# Altium footprint library Connector_Molex.PcbLib: 815 footprints (part 11 of 51)
Each footprint in its own frame and in the unit in brackets; x right, y up, seen from the top. Pads: shape width x height; smd on the part's side, far side on the other; paste and mask are expansions set on the pad; w line width, h text height; cw(c..) or ccw(c..) is an arc to the next point about the centre after c.
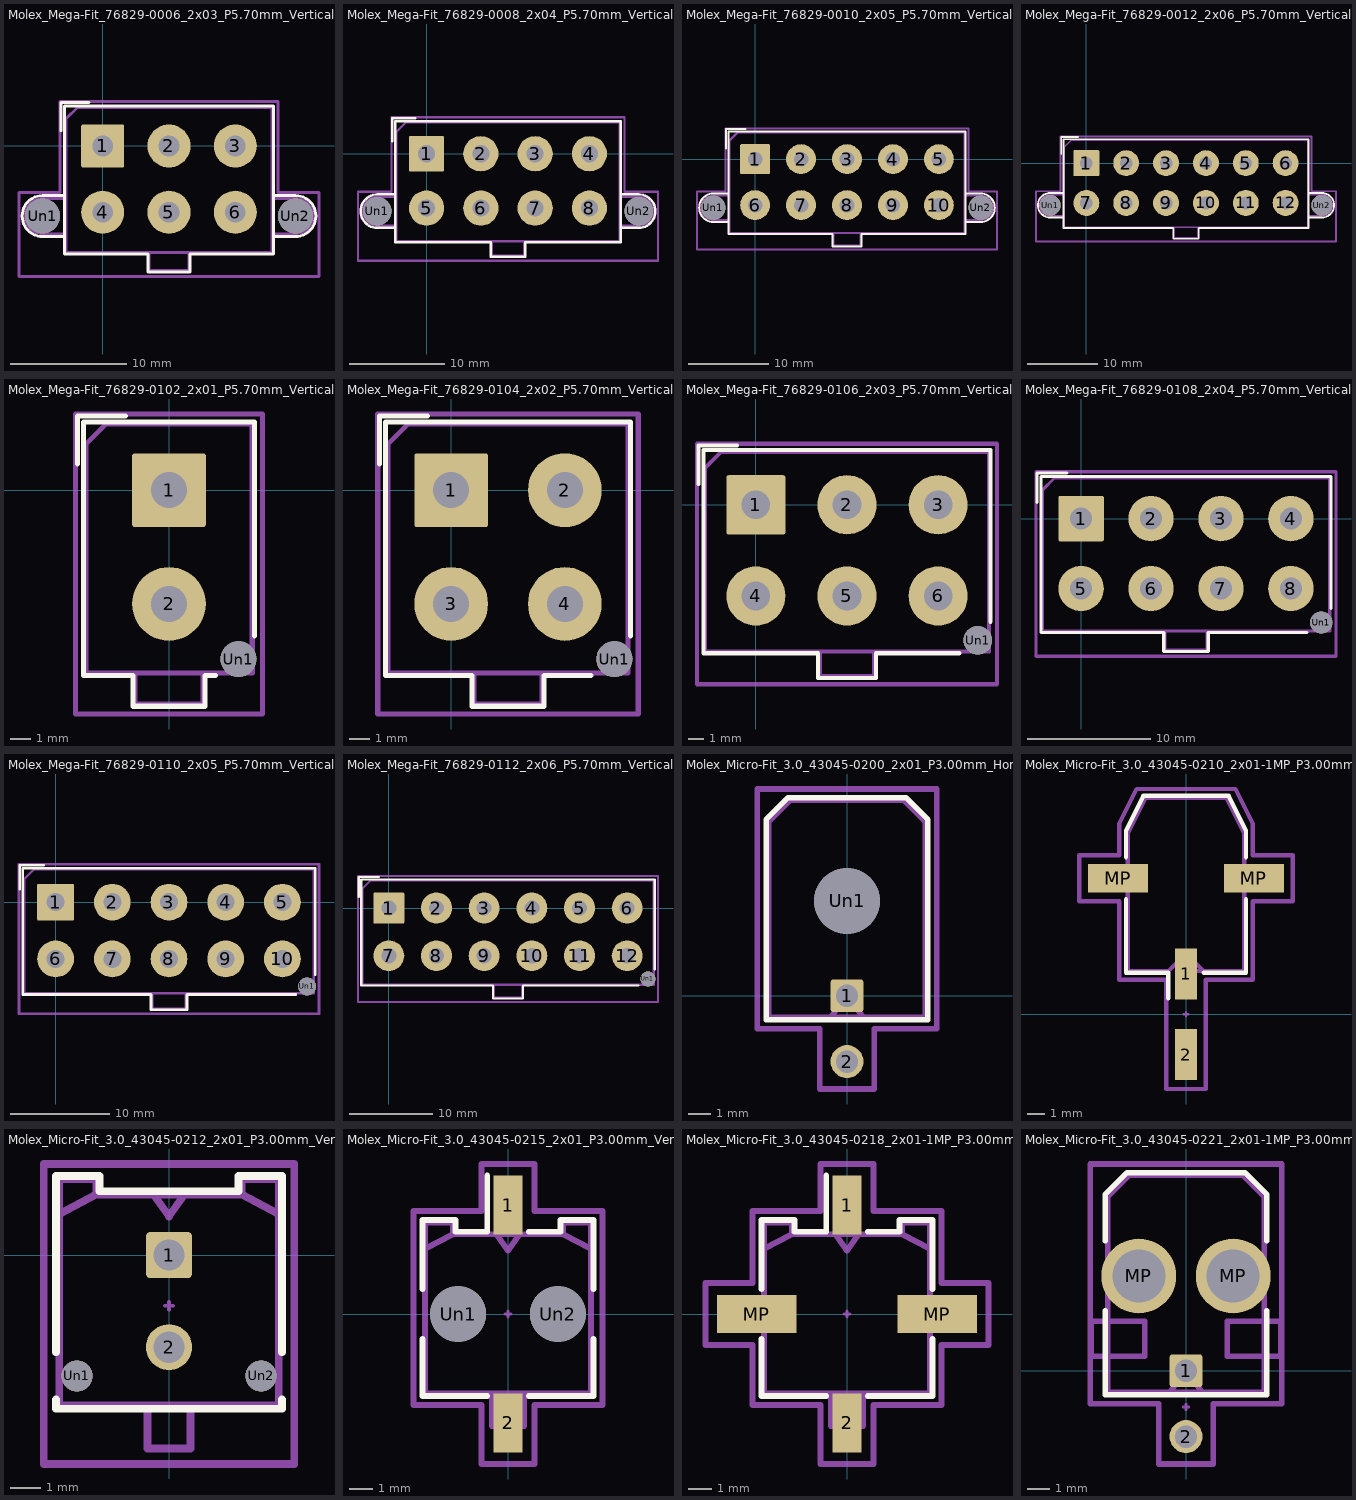
[diagram p10: the footprints below, top view; thin cyan lines are the x and y axes]

## Molex_Mega-Fit_76829-0006_2x03_P5.70mm_Vertical [mm]
pads (8):
  rrect7% 3.7x3.7 hole 1.8: 1(0,0)
  round 3.7 hole 1.8: 2(5.7,0) 3(11.4,0) 4(0,-5.7) 5(5.7,-5.7) 6(11.4,-5.7)
  round 3 hole 3: Un1(-5.17,-6.025) Un2(16.57,-6.025)
F.SilkS:
  lines w0.254: -3.585,1.31 -3.585,3.72 -1.175,3.72 ; -3.285,-7.785 -5.17,-7.785 cw(c-5.17,-6.025) -5.17,-4.265 -3.285,-4.265 ; 14.685,-7.785 16.57,-7.785 ccw(c16.57,-6.025) 16.57,-4.265 14.685,-4.265 ; -3.285,-9.28 3.89,-9.28 3.89,-10.83 5.7,-10.83 7.51,-10.83 7.51,-9.28 14.685,-9.28 14.685,3.42 5.7,3.42 -3.285,3.42 -3.285,-9.28
Top Assembly:
  lines w0.254: -3.175,-7.55 -5.17,-7.55 cw(c-5.17,-6.025) -5.17,-4.5 -3.175,-4.5 ; 4,-9.17 4,-10.72 7.4,-10.72 7.4,-9.17 ; 14.575,-7.55 16.57,-7.55 ccw(c16.57,-6.025) 16.57,-4.5 14.575,-4.5 ; -3.175,-9.17 14.575,-9.17 14.575,3.31 -2.175,3.31 -3.175,2.31 -3.175,-9.17
  text "'.Designator'" at 1.653,1.77 h1
Top Courtyard:
  lines w0.254: -7.2,-11.22 18.6,-11.22 18.6,-4.01 15.08,-4.01 15.08,3.82 -3.68,3.82 -3.68,-4.01 -7.2,-4.01 -7.2,-11.22
Top Designator:
  text ".Designator" at -1.918,-4.208 h1.52

## Molex_Mega-Fit_76829-0008_2x04_P5.70mm_Vertical [mm]
pads (10):
  rrect7% 3.7x3.7 hole 1.8: 1(0,0)
  round 3.7 hole 1.8: 2(5.7,0) 3(11.4,0) 4(17.1,0) 5(0,-5.7) 6(5.7,-5.7) 7(11.4,-5.7) 8(17.1,-5.7)
  round 3 hole 3: Un1(-5.17,-6.025) Un2(22.27,-6.025)
F.SilkS:
  lines w0.254: -3.585,1.31 -3.585,3.72 -1.175,3.72 ; -3.285,-7.785 -5.17,-7.785 cw(c-5.17,-6.025) -5.17,-4.265 -3.285,-4.265 ; 20.385,-7.785 22.27,-7.785 ccw(c22.27,-6.025) 22.27,-4.265 20.385,-4.265 ; -3.285,-9.28 6.74,-9.28 6.74,-10.83 8.55,-10.83 10.36,-10.83 10.36,-9.28 20.385,-9.28 20.385,3.42 8.55,3.42 -3.285,3.42 -3.285,-9.28
Top Assembly:
  lines w0.254: -3.175,-7.55 -5.17,-7.55 cw(c-5.17,-6.025) -5.17,-4.5 -3.175,-4.5 ; 6.85,-9.17 6.85,-10.72 10.25,-10.72 10.25,-9.17 ; 20.275,-7.55 22.27,-7.55 ccw(c22.27,-6.025) 22.27,-4.5 20.275,-4.5 ; -3.175,-9.17 20.275,-9.17 20.275,3.31 -2.175,3.31 -3.175,2.31 -3.175,-9.17
  text "'.Designator'" at 4.503,1.77 h1
Top Courtyard:
  lines w0.254: -7.2,-11.22 24.3,-11.22 24.3,-4 20.78,-4 20.78,3.82 -3.68,3.82 -3.68,-4 -7.2,-4 -7.2,-11.22
Top Designator:
  text ".Designator" at 0.932,-4.208 h1.52

## Molex_Mega-Fit_76829-0010_2x05_P5.70mm_Vertical [mm]
pads (12):
  rrect7% 3.7x3.7 hole 1.8: 1(0,0)
  round 3.7 hole 1.8: 2(5.7,0) 3(11.4,0) 4(17.1,0) 5(22.8,0) 6(0,-5.7) 7(5.7,-5.7) 8(11.4,-5.7) 9(17.1,-5.7) 10(22.8,-5.7)
  round 3 hole 3: Un1(-5.17,-6.025) Un2(27.97,-6.025)
F.SilkS:
  lines w0.254: -3.585,1.31 -3.585,3.72 -1.175,3.72 ; -3.285,-7.785 -5.17,-7.785 cw(c-5.17,-6.025) -5.17,-4.265 -3.285,-4.265 ; 26.085,-7.785 27.97,-7.785 ccw(c27.97,-6.025) 27.97,-4.265 26.085,-4.265 ; -3.285,-9.28 9.59,-9.28 9.59,-10.83 11.4,-10.83 13.21,-10.83 13.21,-9.28 26.085,-9.28 26.085,3.42 11.4,3.42 -3.285,3.42 -3.285,-9.28
Top Assembly:
  lines w0.254: -3.175,-7.55 -5.17,-7.55 cw(c-5.17,-6.025) -5.17,-4.5 -3.175,-4.5 ; 9.7,-9.17 9.7,-10.72 13.1,-10.72 13.1,-9.17 ; 25.975,-7.55 27.97,-7.55 ccw(c27.97,-6.025) 27.97,-4.5 25.975,-4.5 ; -3.175,-9.17 25.975,-9.17 25.975,3.31 -2.175,3.31 -3.175,2.31 -3.175,-9.17
  text "'.Designator'" at 7.353,1.77 h1
Top Courtyard:
  lines w0.254: -7.2,-11.22 30,-11.22 30,-4.01 26.48,-4.01 26.48,3.82 -3.68,3.82 -3.68,-4.01 -7.2,-4.01 -7.2,-11.22
Top Designator:
  text ".Designator" at 3.782,-4.208 h1.52

## Molex_Mega-Fit_76829-0012_2x06_P5.70mm_Vertical [mm]
pads (14):
  rrect7% 3.7x3.7 hole 1.8: 1(0,0)
  round 3.7 hole 1.8: 2(5.7,0) 3(11.4,0) 4(17.1,0) 5(22.8,0) 6(28.5,0) 7(0,-5.7) 8(5.7,-5.7) 9(11.4,-5.7) 10(17.1,-5.7) 11(22.8,-5.7) 12(28.5,-5.7)
  round 3 hole 3: Un1(-5.17,-6.025) Un2(33.67,-6.025)
F.SilkS:
  lines w0.254: -3.585,1.31 -3.585,3.72 -1.175,3.72 ; -3.285,-7.785 -5.17,-7.785 cw(c-5.17,-6.025) -5.17,-4.265 -3.285,-4.265 ; 31.785,-7.785 33.67,-7.785 ccw(c33.67,-6.025) 33.67,-4.265 31.785,-4.265 ; -3.285,-9.28 12.44,-9.28 12.44,-10.83 14.25,-10.83 16.06,-10.83 16.06,-9.28 31.785,-9.28 31.785,3.42 14.25,3.42 -3.285,3.42 -3.285,-9.28
Top Assembly:
  lines w0.254: -3.175,-7.55 -5.17,-7.55 cw(c-5.17,-6.025) -5.17,-4.5 -3.175,-4.5 ; 12.55,-9.17 12.55,-10.72 15.95,-10.72 15.95,-9.17 ; 31.675,-7.55 33.67,-7.55 ccw(c33.67,-6.025) 33.67,-4.5 31.675,-4.5 ; -3.175,-9.17 31.675,-9.17 31.675,3.31 -2.175,3.31 -3.175,2.31 -3.175,-9.17
  text "'.Designator'" at 10.203,1.77 h1
Top Courtyard:
  lines w0.254: -7.2,-11.22 35.7,-11.22 35.7,-4.01 32.18,-4.01 32.18,3.82 -3.68,3.82 -3.68,-4.01 -7.2,-4.01 -7.2,-11.22
Top Designator:
  text ".Designator" at 6.632,-4.208 h1.52

## Molex_Mega-Fit_76829-0102_2x01_P5.70mm_Vertical [mm]
pads (3):
  rrect7% 3.7x3.7 hole 1.8: 1(0,0)
  round 3.7 hole 1.8: 2(0,-5.7)
  round 1.8 hole 1.8: Un1(3.48,-8.47)
F.SilkS:
  lines w0.254: -4.585,1.31 -4.585,3.72 -2.175,3.72 ; 2.32,-9.28 1.81,-9.28 1.81,-10.83 0,-10.83 -1.81,-10.83 -1.81,-9.28 -4.285,-9.28 -4.285,3.42 0,3.42 4.285,3.42 4.285,-7.31
Top Assembly:
  lines w0.254: -1.7,-9.17 -1.7,-10.72 1.7,-10.72 1.7,-9.17 ; -4.175,-9.17 4.175,-9.17 4.175,3.31 -3.175,3.31 -4.175,2.31 -4.175,-9.17
  text "'.Designator'" at -4.047,1.77 h1
Top Courtyard:
  lines w0.254: -4.68,-11.22 4.68,-11.22 4.68,3.82 -4.68,3.82 -4.68,-11.22
Top Designator:
  text ".Designator" at -7.618,-4.208 h1.52

## Molex_Mega-Fit_76829-0104_2x02_P5.70mm_Vertical [mm]
pads (5):
  rrect7% 3.7x3.7 hole 1.8: 1(0,0)
  round 3.7 hole 1.8: 2(5.7,0) 3(0,-5.7) 4(5.7,-5.7)
  round 1.8 hole 1.8: Un1(8.18,-8.47)
F.SilkS:
  lines w0.254: -3.585,1.31 -3.585,3.72 -1.175,3.72 ; 7.02,-9.28 4.66,-9.28 4.66,-10.83 2.85,-10.83 1.04,-10.83 1.04,-9.28 -3.285,-9.28 -3.285,3.42 2.85,3.42 8.985,3.42 8.985,-7.31
Top Assembly:
  lines w0.254: 1.15,-9.17 1.15,-10.72 4.55,-10.72 4.55,-9.17 ; -3.175,-9.17 8.875,-9.17 8.875,3.31 -2.175,3.31 -3.175,2.31 -3.175,-9.17
  text "'.Designator'" at -1.197,1.77 h1
Top Courtyard:
  lines w0.254: -3.68,-11.22 9.38,-11.22 9.38,3.82 -3.68,3.82 -3.68,-11.22
Top Designator:
  text ".Designator" at -4.768,-4.208 h1.52

## Molex_Mega-Fit_76829-0106_2x03_P5.70mm_Vertical [mm]
pads (7):
  rrect7% 3.7x3.7 hole 1.8: 1(0,0)
  round 3.7 hole 1.8: 2(5.7,0) 3(11.4,0) 4(0,-5.7) 5(5.7,-5.7) 6(11.4,-5.7)
  round 1.8 hole 1.8: Un1(13.88,-8.47)
F.SilkS:
  lines w0.254: -3.585,1.31 -3.585,3.72 -1.175,3.72 ; 12.72,-9.28 7.51,-9.28 7.51,-10.83 5.7,-10.83 3.89,-10.83 3.89,-9.28 -3.285,-9.28 -3.285,3.42 5.7,3.42 14.685,3.42 14.685,-7.31
Top Assembly:
  lines w0.254: 4,-9.17 4,-10.72 7.4,-10.72 7.4,-9.17 ; -3.175,-9.17 14.575,-9.17 14.575,3.31 -2.175,3.31 -3.175,2.31 -3.175,-9.17
  text "'.Designator'" at 1.653,1.77 h1
Top Courtyard:
  lines w0.254: -3.68,-11.22 15.08,-11.22 15.08,3.82 -3.68,3.82 -3.68,-11.22
Top Designator:
  text ".Designator" at -1.918,-4.208 h1.52

## Molex_Mega-Fit_76829-0108_2x04_P5.70mm_Vertical [mm]
pads (9):
  rrect7% 3.7x3.7 hole 1.8: 1(0,0)
  round 3.7 hole 1.8: 2(5.7,0) 3(11.4,0) 4(17.1,0) 5(0,-5.7) 6(5.7,-5.7) 7(11.4,-5.7) 8(17.1,-5.7)
  round 1.8 hole 1.8: Un1(19.58,-8.47)
F.SilkS:
  lines w0.254: -3.585,1.31 -3.585,3.72 -1.175,3.72 ; 18.42,-9.28 10.36,-9.28 10.36,-10.83 8.55,-10.83 6.74,-10.83 6.74,-9.28 -3.285,-9.28 -3.285,3.42 8.55,3.42 20.385,3.42 20.385,-7.31
Top Assembly:
  lines w0.254: 6.85,-9.17 6.85,-10.72 10.25,-10.72 10.25,-9.17 ; -3.175,-9.17 20.275,-9.17 20.275,3.31 -2.175,3.31 -3.175,2.31 -3.175,-9.17
  text "'.Designator'" at 4.503,1.77 h1
Top Courtyard:
  lines w0.254: -3.68,-11.22 20.78,-11.22 20.78,3.82 -3.68,3.82 -3.68,-11.22
Top Designator:
  text ".Designator" at 0.932,-4.208 h1.52

## Molex_Mega-Fit_76829-0110_2x05_P5.70mm_Vertical [mm]
pads (11):
  rrect7% 3.7x3.7 hole 1.8: 1(0,0)
  round 3.7 hole 1.8: 2(5.7,0) 3(11.4,0) 4(17.1,0) 5(22.8,0) 6(0,-5.7) 7(5.7,-5.7) 8(11.4,-5.7) 9(17.1,-5.7) 10(22.8,-5.7)
  round 1.8 hole 1.8: Un1(25.28,-8.47)
F.SilkS:
  lines w0.254: -3.585,1.31 -3.585,3.72 -1.175,3.72 ; 24.12,-9.28 13.21,-9.28 13.21,-10.83 11.4,-10.83 9.59,-10.83 9.59,-9.28 -3.285,-9.28 -3.285,3.42 11.4,3.42 26.085,3.42 26.085,-7.31
Top Assembly:
  lines w0.254: 9.7,-9.17 9.7,-10.72 13.1,-10.72 13.1,-9.17 ; -3.175,-9.17 25.975,-9.17 25.975,3.31 -2.175,3.31 -3.175,2.31 -3.175,-9.17
  text "'.Designator'" at 7.353,1.77 h1
Top Courtyard:
  lines w0.254: -3.68,-11.22 26.48,-11.22 26.48,3.82 -3.68,3.82 -3.68,-11.22
Top Designator:
  text ".Designator" at 3.782,-4.208 h1.52

## Molex_Mega-Fit_76829-0112_2x06_P5.70mm_Vertical [mm]
pads (13):
  rrect7% 3.7x3.7 hole 1.8: 1(0,0)
  round 3.7 hole 1.8: 2(5.7,0) 3(11.4,0) 4(17.1,0) 5(22.8,0) 6(28.5,0) 7(0,-5.7) 8(5.7,-5.7) 9(11.4,-5.7) 10(17.1,-5.7) 11(22.8,-5.7) 12(28.5,-5.7)
  round 1.8 hole 1.8: Un1(30.98,-8.47)
F.SilkS:
  lines w0.254: -3.585,1.31 -3.585,3.72 -1.175,3.72 ; 29.82,-9.28 16.06,-9.28 16.06,-10.83 14.25,-10.83 12.44,-10.83 12.44,-9.28 -3.285,-9.28 -3.285,3.42 14.25,3.42 31.785,3.42 31.785,-7.31
Top Assembly:
  lines w0.254: 12.55,-9.17 12.55,-10.72 15.95,-10.72 15.95,-9.17 ; -3.175,-9.17 31.675,-9.17 31.675,3.31 -2.175,3.31 -3.175,2.31 -3.175,-9.17
  text "'.Designator'" at 10.203,1.77 h1
Top Courtyard:
  lines w0.254: -3.68,-11.22 32.18,-11.22 32.18,3.82 -3.68,3.82 -3.68,-11.22
Top Designator:
  text ".Designator" at 6.632,-4.208 h1.52

## Molex_Micro-Fit_3.0_43045-0200_2x01_P3.00mm_Horizontal [mm]
pads (3):
  rrect17% 1.5x1.5 hole 1.02: 1(0,0)
  round 1.5 hole 1.02: 2(0,-3)
  round 3 hole 3: Un1(0,4.32)
F.SilkS:
  lines w0.254: -3.685,-1.1 3.685,-1.1 3.685,8.03 2.685,9.03 -2.685,9.03 -3.685,8.03 -3.685,-1.1
Top Assembly:
  lines w0.254: -0.75,-0.99 0,0 0.75,-0.99 ; -3.575,-0.99 3.575,-0.99 3.575,7.92 2.575,8.92 -2.575,8.92 -3.575,7.92 -3.575,-0.99
  text "'.Designator'" at -3.81,6.477 h1
Top Courtyard:
  lines w0.254: -4.08,-1.5 -1.25,-1.5 -1.25,-4.25 1.25,-4.25 1.25,-1.5 4.08,-1.5 4.08,9.42 -4.08,9.42 -4.08,-1.5
Top Designator:
  text ".Designator" at -7.618,2.077 h1.52

## Molex_Micro-Fit_3.0_43045-0210_2x01-1MP_P3.00mm_Horizontal [mm]
pads (4):
  rect 1.27x2.92 smd: 1(0,2.315) 2(0,-2.315)
  rect 3.43x1.65 smd: MP(-3.885,7.785) MP(3.885,7.785)
F.SilkS:
  lines w0.254: -3.435,6.59 -3.435,2.365 -1.005,2.365 -1.005,0.905 ; -3.435,8.98 -3.435,10.495 -2.435,12.495 0,12.495 2.435,12.495 3.435,10.495 3.435,8.98 ; 1.005,2.365 3.435,2.365 3.435,6.59
Top Component Center:
  lines w0.127: -0.127,0 0.127,0 ; 0,-0.127 0,0.127
Top Assembly:
  lines w0.254: -3.325,2.475 -3.325,8.61 -3.325,10.385 -2.325,12.385 0,12.385 2.325,12.385 3.325,10.385 3.325,8.61 3.325,2.475 0.635,2.475 0,2.475 1,2.475 0,3.475 -1,2.475 -3.325,2.475
  text "'.Designator'" at -4.047,10.84 h1
Top Courtyard:
  lines w0.254: -6.1,6.46 -6.1,9.11 -3.83,9.11 -3.83,10.89 -2.83,12.89 0,12.89 2.83,12.89 3.83,10.89 3.83,9.11 6.1,9.11 6.1,6.46 3.83,6.46 3.83,1.98 1.14,1.98 1.14,-4.28 0,-4.28 -1.14,-4.28 -1.14,1.98 -3.83,1.98 -3.83,6.46 -6.1,6.46
Top Designator:
  text ".Designator" at -7.618,3.797 h1.52

## Molex_Micro-Fit_3.0_43045-0212_2x01_P3.00mm_Vertical [mm]
pads (4):
  rrect17% 1.5x1.5 hole 1.02: 1(0,0)
  round 1.5 hole 1.02: 2(0,-3)
  round 1.02 hole 1.02: Un1(-3,-3.94) Un2(3,-3.94)
F.SilkS:
  lines w0.254: -3.685,-4.71 -3.685,-5.01 3.685,-5.01 3.685,-4.71 ; -3.685,-3.17 -3.685,2.58 -2.265,2.58 -2.265,2.08 2.265,2.08 2.265,2.58 3.685,2.58 3.685,-3.17
Top Component Center:
  lines w0.127: -0.127,-1.651 0.127,-1.651 ; 0,-1.778 0,-1.524
Top Assembly:
  lines w0.254: -3.575,1.34 -2.375,1.97 ; -0.7,-4.9 -0.7,-6.3 0.7,-6.3 0.7,-4.9 ; -0.5,1.97 0,1.263 0.5,1.97 ; 3.575,1.34 2.375,1.97 ; -2.375,1.97 2.375,1.97 ; -2.375,1.97 -2.375,2.47 -3.575,2.47 -3.575,-4.9 3.575,-4.9 3.575,2.47 2.375,2.47 2.375,1.97
  text "'.Designator'" at -3.81,-2.032 h1
Top Courtyard:
  lines w0.254: -4.08,-6.81 4.08,-6.81 4.08,2.97 -4.08,2.97 -4.08,-6.81
Top Designator:
  text ".Designator" at -7.618,-2.159 h1.52

## Molex_Micro-Fit_3.0_43045-0215_2x01_P3.00mm_Vertical [mm]
pads (4):
  rect 1.27x2.54 smd: 1(0,4.7) 2(0,-4.7)
  round 2.41 hole 2.41: Un1(-2.15,0) Un2(2.15,0)
F.SilkS:
  lines w0.254: -3.685,-1.085 -3.685,-3.54 -0.895,-3.54 ; -3.685,1.085 -3.685,4.05 -2.265,4.05 -2.265,3.55 -0.895,3.55 -0.895,5.97 ; 0.895,-3.54 3.685,-3.54 3.685,-1.085 ; 0.895,3.55 2.265,3.55 2.265,4.05 3.685,4.05 3.685,1.085
Top Component Center:
  lines w0.127: -0.127,0 0.127,0 ; 0,-0.127 0,0.127
Top Assembly:
  lines w0.254: -3.575,2.81 -2.375,3.44 ; -0.7,-3.43 -0.7,-4.83 0.7,-4.83 0.7,-3.43 ; -0.5,3.44 0,2.733 0.5,3.44 ; 3.575,2.81 2.375,3.44 ; -2.375,3.44 -2.375,3.94 -3.575,3.94 -3.575,-3.43 3.575,-3.43 3.575,3.94 2.375,3.94 2.375,3.44 ; -2.375,3.44 2.375,3.44
  text "'.Designator'" at -4.047,-3.57 h1
Top Courtyard:
  lines w0.254: -4.08,-3.93 -4.08,4.44 -1.14,4.44 -1.14,6.47 0,6.47 1.14,6.47 1.14,4.44 4.08,4.44 4.08,-3.93 1.14,-3.93 1.14,-6.47 0,-6.47 -1.14,-6.47 -1.14,-3.93 -4.08,-3.93
Top Designator:
  text ".Designator" at -7.618,-0.508 h1.52

## Molex_Micro-Fit_3.0_43045-0218_2x01-1MP_P3.00mm_Vertical [mm]
pads (4):
  rect 1.27x2.54 smd: 1(0,4.7) 2(0,-4.7)
  rect 3.43x1.65 smd: MP(-3.885,0) MP(3.885,0)
F.SilkS:
  lines w0.254: -3.685,-1.085 -3.685,-3.54 -0.895,-3.54 ; -3.685,1.085 -3.685,4.05 -2.265,4.05 -2.265,3.55 -0.895,3.55 -0.895,5.97 ; 0.895,-3.54 3.685,-3.54 3.685,-1.085 ; 0.895,3.55 2.265,3.55 2.265,4.05 3.685,4.05 3.685,1.085
Top Component Center:
  lines w0.127: -0.127,0 0.127,0 ; 0,-0.127 0,0.127
Top Assembly:
  lines w0.254: -3.575,2.81 -2.375,3.44 ; -0.7,-3.43 -0.7,-4.83 0.7,-4.83 0.7,-3.43 ; -0.5,3.44 0,2.733 0.5,3.44 ; 3.575,2.81 2.375,3.44 ; -2.375,3.44 -2.375,3.94 -3.575,3.94 -3.575,-3.43 3.575,-3.43 3.575,3.94 2.375,3.94 2.375,3.44 ; -2.375,3.44 2.375,3.44
  text "'.Designator'" at -4.047,-3.57 h1
Top Courtyard:
  lines w0.254: -6.1,-1.33 -6.1,1.33 -4.08,1.33 -4.08,4.44 -1.14,4.44 -1.14,6.47 0,6.47 1.14,6.47 1.14,4.44 4.08,4.44 4.08,1.33 6.1,1.33 6.1,-1.33 4.08,-1.33 4.08,-3.93 1.14,-3.93 1.14,-6.47 0,-6.47 -1.14,-6.47 -1.14,-3.93 -4.08,-3.93 -4.08,-1.33 -6.1,-1.33
Top Designator:
  text ".Designator" at -7.618,-0.508 h1.52

## Molex_Micro-Fit_3.0_43045-0221_2x01-1MP_P3.00mm_Horizontal [mm]
pads (4):
  rrect17% 1.5x1.5 hole 1.02: 1(0,0)
  round 1.5 hole 1.02: 2(0,-3)
  round 3.41 hole 2.41: MP(-2.15,4.32) MP(2.15,4.32)
F.SilkS:
  lines w0.254: -3.685,2.725 -3.685,-1.1 3.685,-1.1 3.685,2.725 ; -3.685,5.915 -3.685,8.03 -2.685,9.03 2.685,9.03 3.685,8.03 3.685,5.915
Top Component Center:
  lines w0.127: -0.127,-1.651 0.127,-1.651 ; 0,-1.778 0,-1.524
Top Assembly:
  lines w0.254: -0.75,-0.99 0,0 0.75,-0.99 ; -3.575,-0.99 3.575,-0.99 3.575,7.92 2.575,8.92 -2.575,8.92 -3.575,7.92 -3.575,-0.99
  text "'.Designator'" at -4.047,7.38 h1
Top Courtyard:
  lines w0.254: -4.36,-1.5 -1.25,-1.5 -1.25,-4.25 1.25,-4.25 1.25,-1.5 4.36,-1.5 4.36,9.42 -4.36,9.42 -4.36,-1.5
Top Designator:
  text ".Designator" at -7.618,2.077 h1.52
Dwgs.User:
  lines w0.254: -4.325,0.66 -1.875,0.66 -1.875,2.26 -4.325,2.26 -4.325,0.66 ; 1.875,0.66 4.325,0.66 4.325,2.26 1.875,2.26 1.875,0.66
Cmts.User:
  text "CU KEEPOUT" at 2,1.301 h0.25
  text "CU KEEPOUT" at -4.2,1.301 h0.25